# Altium footprint library ic.PcbLib: 23 footprints (part 1 of 2)
Each footprint in its own frame and in the unit in brackets; x right, y up, seen from the top. Pads: shape width x height; smd on the part's side, far side on the other; paste and mask are expansions set on the pad; w line width, h text height; cw(c..) or ccw(c..) is an arc to the next point about the centre after c.
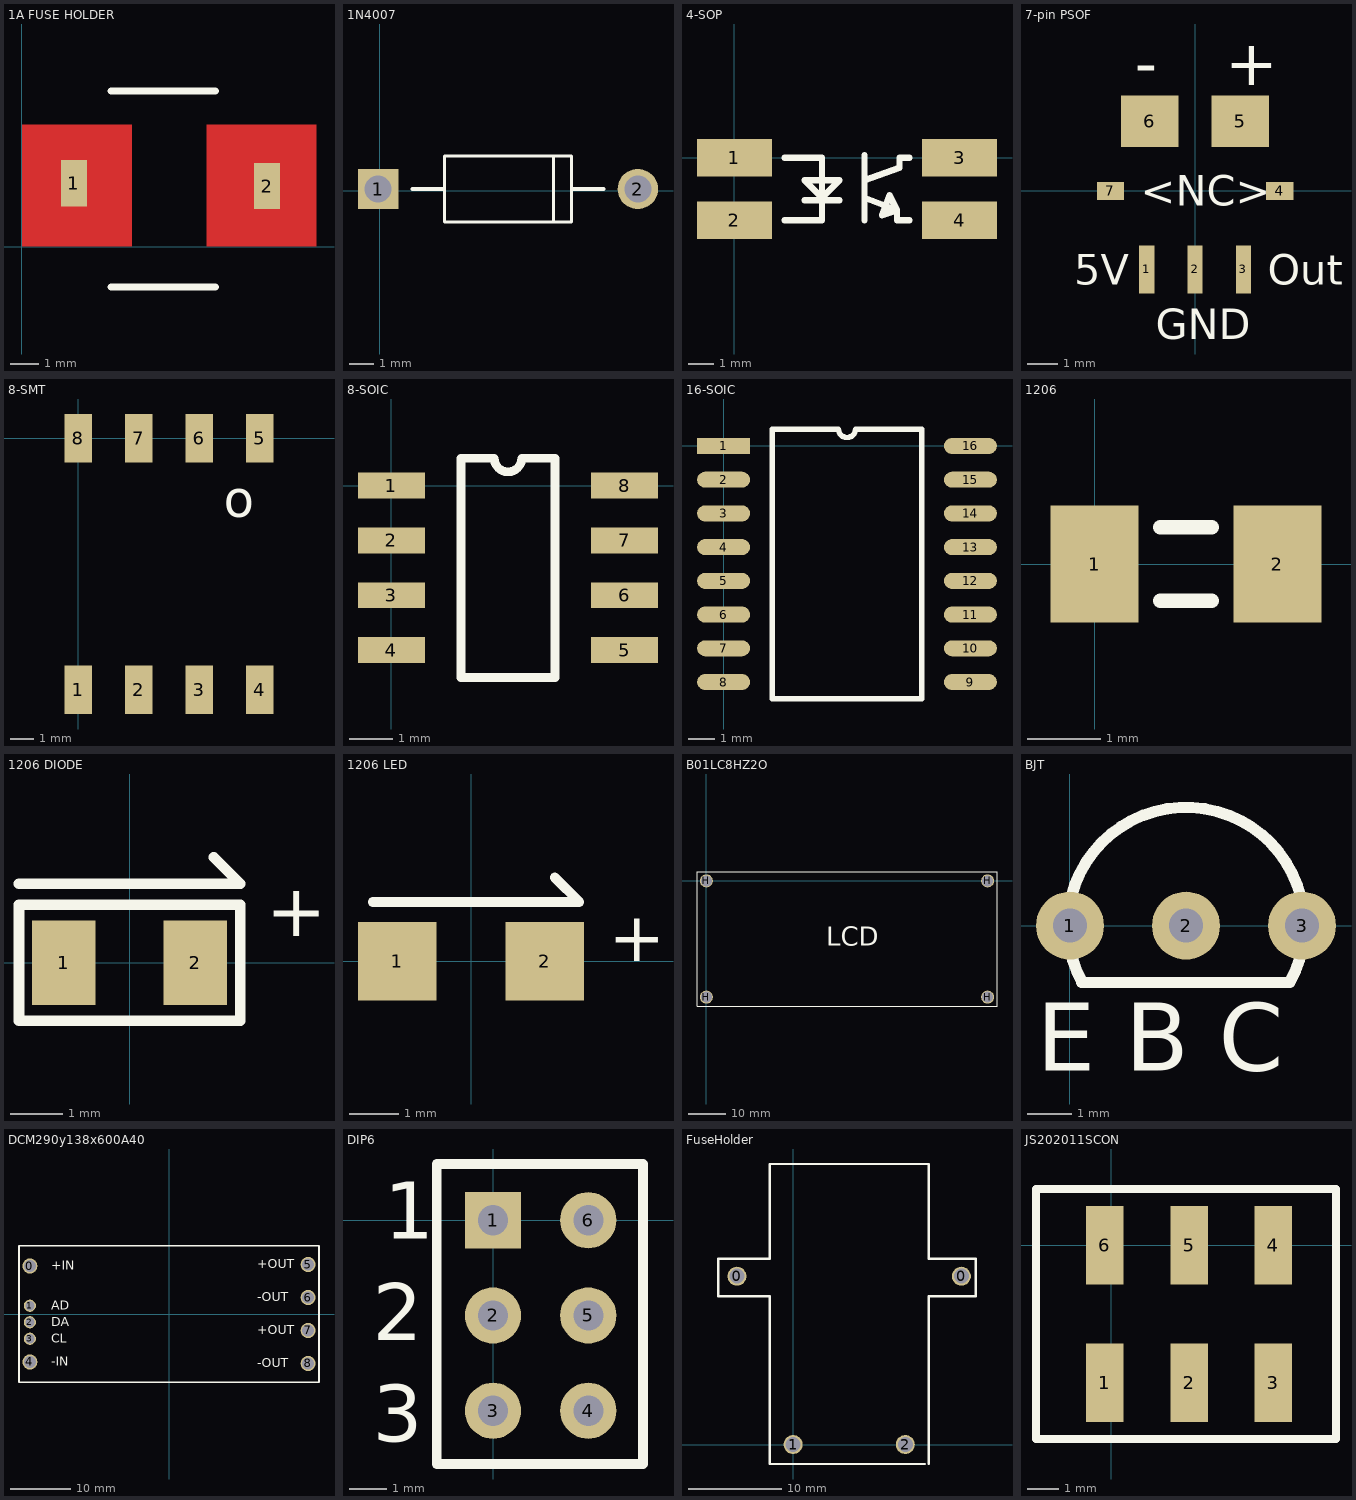
[diagram p0: the footprints below, top view; thin cyan lines are the x and y axes]

## 1A FUSE HOLDER [mm] "0154001.DR"
height 3.81
pads (2):
  rect 0.9x1.6 smd: 1(1.8,2.2) 2(8.5,2.1)
Top Layer:
  rectangle: 0,0 3.81,4.24
  rectangle: 6.4,0 10.21,4.24
Top Overlay:
  lines w0.254: 3.1,-1.4 6.7,-1.4 ; 3.1,5.4 6.7,5.4
Top Solder:
  rectangle: 6.3,-0.1 10.3,4.3
  rectangle: -0.1,-0.1 3.9,4.3

## 1N4007 [mm] "DIODE"
pads (2):
  rect 1.65x1.65 hole 1.1: 1(-0.063,0.073)
  round 1.65 hole 1.1: 2(10.537,0.073)
Top Overlay:
  lines w0.127: 3.462,-1.277 7.837,-1.277 7.837,0.073 7.837,1.423 3.462,1.423 ; 2.637,-1.277 2.637,0.073 2.637,1.423 7.1,1.423 7.1,-1.277 2.637,-1.277
  lines w0.152: 1.337,0.073 2.637,0.073 ; 7.837,0.073 9.137,0.073

## 4-SOP [mm] "TPC817"
height 3.68
pads (4):
  rect 3x1.5 smd: 1(0,0) 2(0,-2.5) 3(9,0) 4(9,-2.5)
Top Overlay:
  lines w0.254: 2,-2.5 3.5,-2.5 3.5,0 2,0 ; 2.8,-1.7 4.2,-1.7 ; 5.2,-2.5 5.2,0.1 ; 5.2,-1.6 6.5,-2.1 ; 5.2,-0.9 6.6,-0.4 6.6,0 7,0 ; 7,-2.5 6.5,-2.5 6.5,-2.1 ; 6.5,-2.1 5.9,-2.3 6.2,-1.5 6.5,-2.1 ; 2.8,-0.9 4.2,-0.9 3.5,-1.6 2.8,-0.9
3D body: height 2, standoff 0.25, extent 1.1,-3.7 7.9,1
3D body: height 0.25, standoff 0, extent 7.5,-3.2 9.6,-1.8
3D body: height 0.25, standoff 0, extent 7.5,-0.7 9.6,0.7
3D body: height 0.25, standoff 0, extent -0.7,-3.2 1.4,-1.8
3D body: height 0.25, standoff 0, extent -0.7,-0.7 1.4,0.7

## 7-pin PSOF [mm] "ACS780xLR"
height 1.5
pads (7):
  rect 0.5x1.6 smd: 1(-1.6,-2.6) 2(0,-2.6) 3(1.6,-2.6)
  rect 0.9x0.6 smd: 4(2.8,0) 7(-2.8,0)
  rect 1.9x1.7 smd: 5(1.5,2.3) 6(-1.5,2.3)
Top Overlay:
  text "GND" at -1.3,-4.9 h1
  text "5V" at -4,-3.1 h1
  text "Out" at 2.4,-3.1 h1
  text "<NC>" at -1.8,-0.5 h1
  text "+" at 1,3.5 h1.52
  text "-" at -2,3.5 h1.52

## 8-SMT [mm]
height 5.44
pads (8):
  rect 1.15x2.04 smd: 1(0,-10.54) 2(2.54,-10.54) 3(5.08,-10.54) 4(7.62,-10.54) 5(7.62,0) 6(5.08,0) 7(2.54,0) 8(0,0)
Top Overlay:
  text "o" at 6.1,-3.3 h1.52
3D body "P3EL-P-008-I2CPressureSensorPCBONLY.prt.stp": height 5.44, standoff 0, extent -1.353,-12 8.553,1.462

## 8-SOIC [mm]
height 1.75
pads (8):
  rect 1.55x0.6 smd: 1(0,0) 2(0,-1.27) 3(0,-2.54) 4(0,-3.81) 5(5.4,-3.81) 6(5.4,-2.54) 7(5.4,-1.27) 8(5.4,0)
Top Overlay:
  lines w0.2: 1.61,-4.445 3.79,-4.445 3.79,0.635 3.017,0.635 cw(c2.7,0.635) 2.382,0.635 1.61,0.635 1.61,-4.445

## 16-SOIC [mm]
pads (16):
  rect 2x0.6 smd: 1(0,0)
  oval 2x0.6 smd: 2(0,-1.27) 3(0,-2.54) 4(0,-3.81) 5(0,-5.08) 6(0,-6.35) 7(0,-7.62) 8(0,-8.89) 9(9.3,-8.89) 10(9.3,-7.62) 11(9.3,-6.35) 12(9.3,-5.08) 13(9.3,-3.81) 14(9.3,-2.54) 15(9.3,-1.27) 16(9.3,0)
Top Overlay:
  lines w0.2: 1.835,-9.525 1.835,0.635 4.332,0.635 ccw(c4.65,0.635) 4.967,0.635 7.465,0.635 7.465,-9.525 1.835,-9.525

## 1206 [mm] "1206 SMD Resistor"
height 4
pads (2):
  rect 1.2x1.6 smd: 1(0,0) 2(2.5,0)
Top Overlay:
  lines w0.2: 0.9,-0.5 1.6,-0.5 ; 0.9,0.5 1.6,0.5

## 1206 DIODE [mm]
pads (2):
  rect 1.2x1.6 smd: 1(-1.25,0) 2(1.25,0)
Top Overlay:
  lines w0.2: -2.1,1.5 2.1,1.5 1.6,2 ; -2.1,-1.1 2.1,-1.1 2.1,1.1 -2.1,1.1 -2.1,-0.2 -2.1,-1.1
  text "+" at 2.6,0.5 h1
3D body: height 1, standoff 0, extent -1.4,-0.8 1.5,0.8

## 1206 LED [mm]
pads (2):
  rect 1.6x1.6 smd: 1(-1.5,0) 2(1.5,0)
Top Overlay:
  lines w0.2: -2,1.2 2.2,1.2 1.7,1.7
  text "+" at 2.8,0 h1
3D body: height 1, standoff 0, extent -1.4,-0.8 1.5,0.8

## B01LC8HZ2O [mm] "LCD 16x2 Characters"
height 25
pads (4):
  round 3.5 hole 2.9: H(0,-31) H(0,0) H(75,-31) H(75,0)
Top Overlay:
  lines w0.254: -2.5,-33.5 77.5,-33.5 77.5,2.5 -2.5,2.5 -2.5,-33.5
  text "LCD" at 31.928,-17.323 h5.08

## BJT [mil]
pads (3):
  round 60 hole 30: 1(0,0) 2(102.36,0) 3(204.72,0)
Top Overlay:
  lines w10: 10.46,-50.2 193.93,-50.2 ccw(c102.36,0) 10.72,-50.06
  text "E B C" at -29.28,-128 h60

## DCM290y138x600A40 [mm]
pads (9):
  round 2.53 hole 2.03: 0(-23.19,8) 4(-23.19,-8) 5(23.19,8.25) 6(23.19,2.75) 7(23.19,-2.75) 8(23.19,-8.25)
  round 2.03 hole 1.52: 1(-23.19,1.38) 2(-23.19,-1.38) 3(-23.19,-4.13)
Top Overlay:
  lines w0.254: -25,-11.4 -25,11.4 25,11.4 25,-11.4 -25,-11.4
  text "+OUT" at 14.707,7.589 h1.52
  text "-OUT" at 14.707,2.089 h1.52
  text "+OUT" at 14.707,-3.411 h1.52
  text "-OUT" at 14.707,-8.911 h1.52
  text "-IN" at -19.66,-8.661 h1.52
  text "CL" at -19.66,-4.791 h1.52
  text "DA" at -19.66,-2.041 h1.52
  text "AD" at -19.66,0.719 h1.52
  text "+IN" at -19.66,7.339 h1.52
3D body: height 8.16, standoff 0, extent -25.019,-11.405 25.019,11.43

## DIP6 [mm]
pads (6):
  rect 1.5x1.5 hole 0.8: 1(0,0)
  round 1.5 hole 0.8: 2(0,-2.54) 3(0,-5.08) 4(2.54,-5.08) 5(2.54,-2.54) 6(2.54,0)
Top Overlay:
  lines w0.254: -1.5,-6.5 -1.5,1.5 4,1.5 4,-6.5 -1.5,-6.5
  text "3" at -3.2,-5.9 h1.52
  text "2" at -3.2,-3.2 h1.52
  text "1" at -2.9,-0.5 h1.52

## FuseHolder [mm]
pads (4):
  round 2.032 hole 1.6: 0(-6,18) 0(18,18) 1(0,0) 2(12,0)
Top Overlay:
  lines w0.254: -2.591,15.85 -8,15.85 -8,19.85 -2.477,19.85 ; -2.5,15.85 -2.5,-2.083 14.097,-2.083 ; -2.5,19.85 -2.5,30 14.5,30 14.5,19.85 19.531,19.85 19.531,15.85 14.5,15.85 14.5,-2.083
3D body: height 2.8, standoff 0, extent -2.515,-2.083 14.529,4.521
3D body: height 6, standoff 0, extent -2.515,4.521 14.529,29.997

## JS202011SCON [mm]
pads (6):
  rect 1.2x2.5 smd: 1(-0.2,-4.4) 2(2.5,-4.4) 3(5.2,-4.4) 4(5.2,0) 5(2.5,0) 6(-0.2,0)
Top Overlay:
  lines w0.254: -2.4,-6.2 -2.4,1.8 7.2,1.8 7.2,-6.2 -2.4,-6.2
3D body "P3EL-P-011-SMDSwitch.prt.stp": height 4.27, standoff 0, extent -2.096,-5.8 6.896,1.261